# EAGLE library part LMR12010YMKE/NOPB (library IC)
IC REG BUCK ADJ 1A TSOT23-6 Manufacturer's datasheet <http://www.ti.com/general/docs/suppproductinfo.tsp?distId=10&gotoUrl=http%3A%2F%2Fwww.ti.com%2Flit%2Fgpn%2Flmr12010>
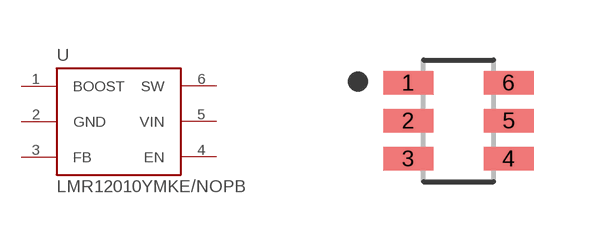
[diagram p34: symbol with the pads of TSOT-23-6; footprint TSOT-23-6]

Designator prefix U

## LMR12010YMKE/NOPB (CREATED_BY: PCBLayout.com; DIGIKEY_PART_NUMBER: LMR12010YMKE/NOPBTR-ND; MANUFACTURER: Texas Instruments; MPN: LMR12010YMKE/NOPB; PACKAGE: TSOT-23-6)  [TSOT-23-6]
1  BOOST  pas
2  GND  pwr
3  FB  out
4  EN  in
5  VIN  pwr
6  SW  out

## Footprint TSOT-23-6 (pad centres in mm)
6-SOT23, 0.95 mm pitch, 2.80 mm span, 2.90 X 1.60 X 1.10 mm body 6-pin SOT23 package with 0.95 mm pitch, 2.80 mm span with body size 2.90 X 1.60 X 1.10 mm
smd 1.25 x 0.589: 1 -1.256,0.95; 2 -1.256,0; 3 -1.256,-0.95; 4 1.256,-0.95; 5 1.256,0; 6 1.256,0.95